# Altium schematic symbol library RES-CONST.SchLib: 1 symbol
Pins are listed as number, name and electrical type; pins without a type are passive.

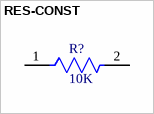
[diagram p0: symbol RES-CONST]

## RES-CONST
designator R?, comment 10K
footprint RES-0603
footprint RES-0201
footprint RES-1206
footprint RES-0402
footprint RES-0805
footprint RES-2512
footprint RES-3921
footprint RES-2W
footprint RES-2W_2
footprint RES_5W_Ceramic_Yageo
footprint RES_10W
footprint RES_5W_Ceramic
pins: 1, 2